# Altium schematic symbol library 43045-1802.SCHLIB: 1 symbol
Pins are listed as number, name and electrical type; pins without a type are passive.

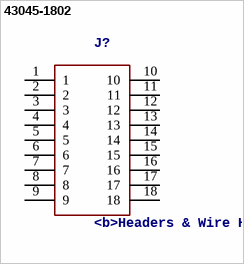
[diagram p0: symbol 43045-1802]

## 43045-1802
designator J?, comment <b>Headers & Wire Housings HDR RA DUAL SMT 18P PCB w/peg locks</b><p> / </b><br><a href="<br><a href="https://componentsearchengine.com/Images/1/43045-1802.jpg" title="Image"> / <img src="https://componentsearchengine.com/Images/1/43045-1802.jpg" width="150"></a><p> / Source: <a href="http://www.molex.com/webdocs/datasheets/pdf/en-us//0430451802_PCB_HEADERS.pdf"> Datasheet </a>
Manufacturer_Name: Molex; Supplier_Name: RS; RS_Part_Number: 8215890; Manufacturer_Part_Number: 43045-1802; Height: mm
footprint 43045-1802_1
pins: 1, 2, 3, 4, 5, 6, 7, 8, 9, 10, 11, 12, 13, 14, 15, 16, 17, 18